# Altium footprint library 172648-0102.PcbLib: 1 footprints
Each footprint in its own frame and in the unit in brackets; x right, y up, seen from the top. Pads: shape width x height; smd on the part's side, far side on the other; paste and mask are expansions set on the pad; w line width, h text height; cw(c..) or ccw(c..) is an arc to the next point about the centre after c.
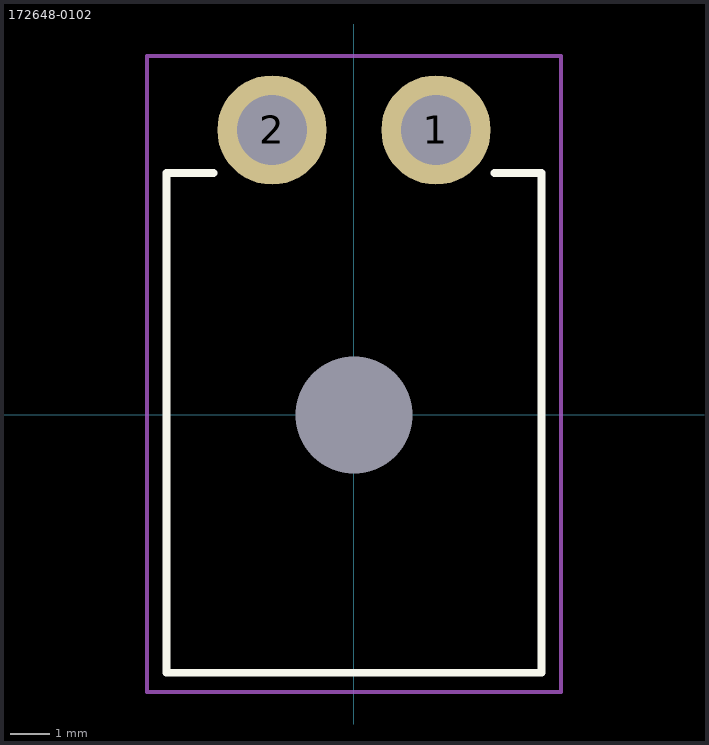
[diagram p0: the footprint, top view; thin cyan lines are the x and y axes]

## 172648-0102 [mm]
height 7.2
pads (3):
  round 2.8 hole 1.8 mask+0.076: 1(2.1,7.3) 2(-2.1,7.3)
  round 1 hole 3 unplated mask+0.076: ""(0,0)
Top Overlay:
  lines w0.2: -3.6,6.2 -4.8,6.2 -4.8,-6.6 4.8,-6.6 4.8,6.2 3.6,6.2
Top Courtyard:
  lines w0.1: -5.3,-7.1 5.3,-7.1 5.3,9.2 -5.3,9.2 -5.3,-7.1
3D body "1726480102.stp": height 7.2, standoff -3.5, extent -4.8,-6.6 4.8,7.8